# EAGLE library part REG_3V_8SOIC (library MAAV)
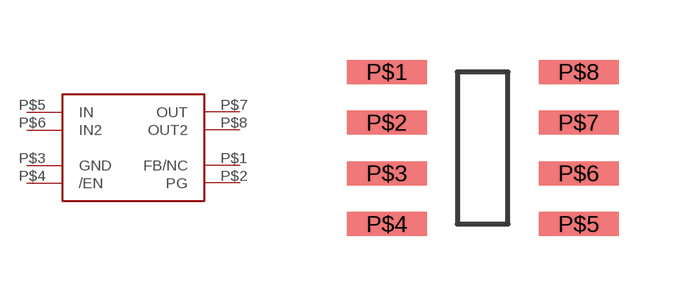
[diagram p2: symbol with the pads of 8-SOIC; footprint 8-SOIC]

Designator prefix U

## REG_3V_8SOIC (DIGIKEY: 296-2719-5-ND)  [8-SOIC]
P$1  FB/NC
P$2  PG
P$3  GND
P$4  /EN
P$5  IN
P$6  IN2
P$7  OUT
P$8  OUT2

## Footprint 8-SOIC (pad centres in mm)
smd 2 x 0.6: P$1 -2.4,1.905; P$2 -2.4,0.635; P$3 -2.4,-0.635; P$4 -2.4,-1.905; P$5 2.4,-1.905; P$6 2.4,-0.635; P$7 2.4,0.635; P$8 2.4,1.905